# EAGLE library part 64902229522 (library Wire-to-Board (rev18a))
WR-MPC4-4.20mm Male Dual Row Angled Header,22 pins=>Code : WR-MPC4_Stiftbuchse_2reihig_abgewinkelt_64902229522 <http://katalog.we-online.de/media/thumbs2/eican/thb_WR-MPC4_Stiftbuchse_2reihig_abgewinkelt_64901029522.jpg> Details see: http://katalog.we-online.de/en/em/MPC4_4_20_MALE_DUAL_ROW_ANGLED_HEADER_6490XX29522 Created 2014-06-06, Karrer Zheng 2014 (C) Würth Elektronik
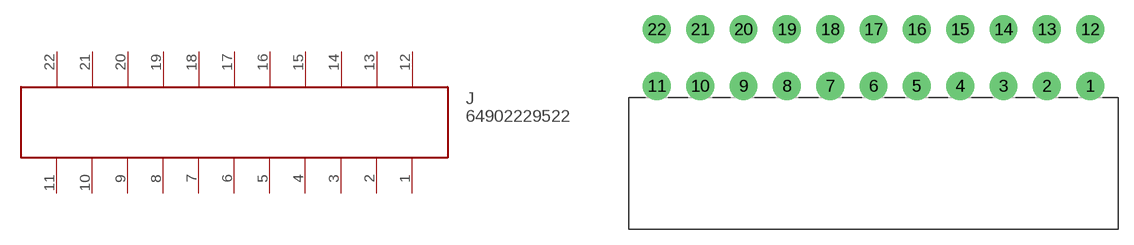
[diagram p319: symbol with the pads of 64902229522; footprint 64902229522]

Designator prefix J

## 64902229522  [64902229522]
1  1
2  2
3  3
4  4
5  5
6  6
7  7
8  8
9  9
10  10
11  11
12  12
13  13
14  14
15  15
16  16
17  17
18  18
19  19
20  20
21  21
22  22

## Footprint 64902229522 (pad centres in mm)
WR-MPC4-4.20mm Male Dual Row Angled Header,22 pins
drill 1.8: 1 21,-2.75; 2 16.8,-2.75; 3 12.6,-2.75; 4 8.4,-2.75; 5 4.2,-2.75; 6 0,-2.75; 7 -4.2,-2.75; 8 -8.4,-2.75; 9 -12.6,-2.75; 10 -16.8,-2.75; 11 -21,-2.75; 12 21,2.75; 13 16.8,2.75; 14 12.6,2.75; 15 8.4,2.75; 16 4.2,2.75; 17 0,2.75; 18 -4.2,2.75; 19 -8.4,2.75; 20 -12.6,2.75; 21 -16.8,2.75; 22 -21,2.75